# Altium footprint library PcbLib1.PcbLib: 26 footprints (part 1 of 2)
Each footprint in its own frame and in the unit in brackets; x right, y up, seen from the top. Pads: shape width x height; smd on the part's side, far side on the other; paste and mask are expansions set on the pad; w line width, h text height; cw(c..) or ccw(c..) is an arc to the next point about the centre after c.
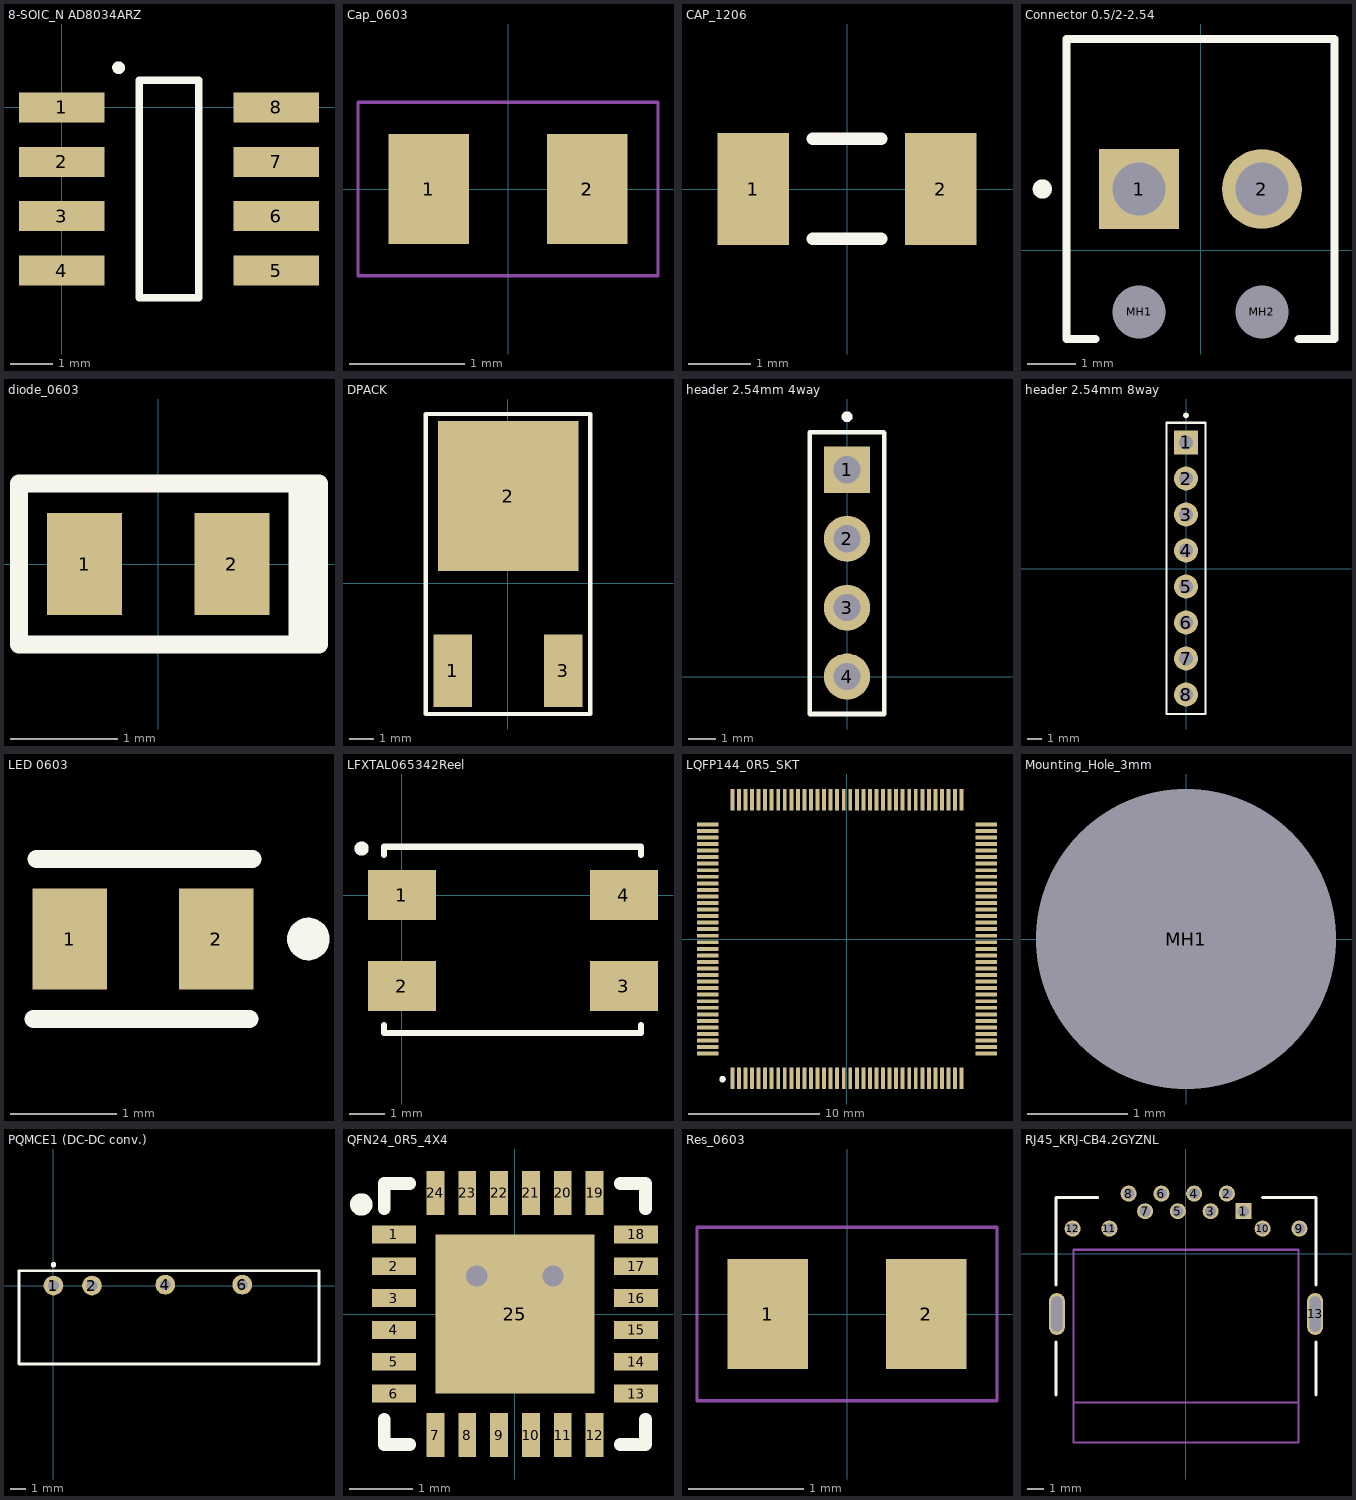
[diagram p0: the footprints below, top view; thin cyan lines are the x and y axes]

## 8-SOIC_N AD8034ARZ [mm]
pads (8):
  rect 2x0.7 smd: 1(0,0) 2(0,-1.27) 3(0,-2.54) 4(0,-3.81) 5(5,-3.81) 6(5,-2.54) 7(5,-1.27) 8(5,0)
Top Overlay:
  circle w0.2: c1.325,0.925 r0.05
  lines w0.17: 2.818,0.635 3.195,0.635 3.195,-4.445 1.805,-4.445 1.805,0.635 3.05,0.635
3D body: height 1.5, standoff 0, extent 0.55,-4.35 4.45,0.55

## Cap_0603 [mm]
pads (3):
  rect 0.7x0.95 smd: 1(-0.687,0) 2(0.688,0) 2(0.688,0)
Mechanical 13:
  lines w0.03: -1.3,-0.75 -1.3,0.75 1.3,0.75 1.3,-0.75 -1.3,-0.75
3D body: height 0.6, standoff 0, extent -0.762,-0.425 0.788,0.425

## CAP_1206 [mm] "Chip Capacitor, Body 3.2x1.6mm, Height 1mm, IPC Medium Density"
height 1
pads (2):
  rect 1.15x1.8 smd: 1(-1.5,0) 2(1.5,0)
Top Overlay:
  lines w0.2: -0.55,-0.8 0.55,-0.8 ; -0.55,0.8 0.55,0.8
3D body: height 1, standoff 0, extent 1.2,-0.9 1.7,0.9
3D body: height 1, standoff 0, extent -1.2,-0.9 1.2,0.9
3D body: height 1, standoff 0, extent -1.7,-0.9 -1.2,0.9

## Connector 0.5/2-2.54 [mm]
pads (4):
  rect 1.65x1.65 hole 1.1: 1(-1.27,1.27)
  round 1.65 hole 1.1: 2(1.27,1.27)
  round 0.55 hole 1.1 unplated: MH1(-1.27,-1.27) MH2(1.27,-1.27)
Top Overlay:
  circle w0.2: c-3.27,1.27 r0.1
  lines w0.17: -2.17,-1.83 -2.77,-1.83 -2.77,4.37 2.77,4.37 2.77,-1.83 2.03,-1.83
3D body "1725656.stp": height 9, standoff -3, extent -2.77,-1.83 2.77,4.37

## diode_0603 [mm]
pads (3):
  rect 0.7x0.95 smd: 1(-0.687,0) 2(0.688,0) 2(0.688,0)
Top Overlay:
  lines w0.17: 1.45,-0.75 1.45,0.75 ; 1.3,-0.75 1.5,-0.75 1.5,0.75 1.3,0.75 ; 1.3,-0.75 1.3,0.75 ; 1.3,-0.75 -1.3,-0.75 -1.3,0.75 1.3,0.75
3D body: height 0.6, standoff 0, extent -0.762,-0.425 0.788,0.425

## DPACK [mm]
pads (3):
  rect 1.6x3 smd: 1(-2.285,-3.61) 3(2.285,-3.61)
  rect 5.8x6.2 smd: 2(0.005,3.61)
Top Overlay:
  lines w0.17: -3.4,-5.4 -3.4,7 3.4,7 3.4,-5.4 -3.4,-5.4
3D body: height 2.2, standoff 0, extent -3.25,-2.35 3.25,3.75

## header 2.54mm 4way [mm]
pads (4):
  rect 1.7x1.7 hole 1: 1(0,7.62)
  round 1.7 hole 1: 2(0,5.08) 3(0,2.54) 4(0,0)
Top Overlay:
  circle w0.2: c0,9.575 r0.1
  lines w0.17: 1.35,9 -1.378,9 -1.378,-1.379 1.375,-1.379 1.375,8.975
3D body: height 11.6, standoff -3, extent -0.32,7.3 0.32,7.94
3D body: height 11.6, standoff -3, extent -0.32,4.74 0.32,5.38
3D body: height 11.6, standoff -3, extent -0.32,2.22 0.32,2.86
3D body: height 2.5, standoff 0, extent -1.27,-1.27 1.27,8.89
3D body: height 11.6, standoff -3, extent -0.32,-0.32 0.32,0.32

## header 2.54mm 8way [mm]
pads (8):
  rect 1.7x1.7 hole 1: 1(0,8.89)
  round 1.7 hole 1: 2(0,6.35) 3(0,3.81) 4(0,1.27) 5(0,-1.27) 6(0,-3.81) 7(0,-6.35) 8(0,-8.89)
Top Overlay:
  circle w0.2: c0,10.8 r0.1
  lines w0.17: 1.35,10.27 -1.378,10.27 -1.378,-10.26 1.375,-10.26 1.375,10.245
3D body: height 11.6, standoff -3, extent -0.32,-9.21 0.32,-8.57
3D body: height 11.6, standoff -3, extent -0.32,-6.67 0.32,-6.03
3D body: height 11.6, standoff -3, extent -0.32,-1.59 0.32,-0.95
3D body: height 11.6, standoff -3, extent -0.32,-4.13 0.32,-3.49
3D body: height 11.6, standoff -3, extent -0.32,8.57 0.32,9.21
3D body: height 11.6, standoff -3, extent -0.32,6.01 0.32,6.65
3D body: height 11.6, standoff -3, extent -0.32,3.49 0.32,4.13
3D body: height 2.5, standoff 0, extent -1.27,-10.15 1.27,10.17
3D body: height 11.6, standoff -3, extent -0.32,0.95 0.32,1.59

## LED 0603 [mm]
pads (3):
  rect 0.7x0.95 smd: 1(-152.187,-50.025) 2(-150.812,-50.025) 2(-150.812,-50.025)
Top Overlay:
  circle w0.2: c-149.95,-50.025 r0.1
  lines w0.17: -152.525,-50.775 -150.5,-50.775 ; -152.5,-49.275 -150.475,-49.275
3D body: height 0.45, standoff 0, extent -152.262,-50.45 -150.712,-49.6

## LFXTAL065342Reel [mm]
pads (4):
  rect 1.9x1.4 smd: 1(0,0) 2(0,-2.54) 3(6.2,-2.54) 4(6.2,0)
Top Overlay:
  circle w0.2: c-1.125,1.3 r0.1
  lines w0.17: -0.5,-3.625 -0.5,-3.85 6.675,-3.85 6.675,-3.625 ; -0.5,1.125 -0.5,1.35 6.675,1.35 6.675,1.125
3D body: height 1.2, standoff 0, extent -0.5,-3.85 6.7,1.35

## LQFP144_0R5_SKT [mm] "32-bit MCU ARM-based Cortex-M3 20 X 20mm, 0.5mm Pitch, 1.6mm Max thickness"
height 1.6
pads (144):
  rect 0.3x1.65 smd: 1(-8.75,-10.625) 2(-8.25,-10.625) 3(-7.75,-10.625) 4(-7.25,-10.625) 5(-6.75,-10.625) 6(-6.25,-10.625) 7(-5.75,-10.625) 8(-5.25,-10.625) 9(-4.75,-10.625) 10(-4.25,-10.625) 11(-3.75,-10.625) 12(-3.25,-10.625) 13(-2.75,-10.625) 14(-2.25,-10.625) 15(-1.75,-10.625) 16(-1.25,-10.625) 17(-0.75,-10.625) 18(-0.25,-10.625) 19(0.25,-10.625) 20(0.75,-10.625) 21(1.25,-10.625) 22(1.75,-10.625) 23(2.25,-10.625) 24(2.75,-10.625) 25(3.25,-10.625) 26(3.75,-10.625) 27(4.25,-10.625) 28(4.75,-10.625) 29(5.25,-10.625) 30(5.75,-10.625) 31(6.25,-10.625) 32(6.75,-10.625) 33(7.25,-10.625) 34(7.75,-10.625) 35(8.25,-10.625) 36(8.75,-10.625) 73(8.75,10.625) 74(8.25,10.625) 75(7.75,10.625) 76(7.25,10.625) 77(6.75,10.625) 78(6.25,10.625) 79(5.75,10.625) 80(5.25,10.625) 81(4.75,10.625) 82(4.25,10.625) 83(3.75,10.625) 84(3.25,10.625) 85(2.75,10.625) 86(2.25,10.625) 87(1.75,10.625) 88(1.25,10.625) 89(0.75,10.625) 90(0.25,10.625) 91(-0.25,10.625) 92(-0.75,10.625) 93(-1.25,10.625) 94(-1.75,10.625) 95(-2.25,10.625) 96(-2.75,10.625) 97(-3.25,10.625) 98(-3.75,10.625) 99(-4.25,10.625) 100(-4.75,10.625) 101(-5.25,10.625) 102(-5.75,10.625) 103(-6.25,10.625) 104(-6.75,10.625) 105(-7.25,10.625) 106(-7.75,10.625) 107(-8.25,10.625) 108(-8.75,10.625)
  rect 1.65x0.3 smd: 37(10.625,-8.75) 38(10.625,-8.25) 39(10.625,-7.75) 40(10.625,-7.25) 41(10.625,-6.75) 42(10.625,-6.25) 43(10.625,-5.75) 44(10.625,-5.25) 45(10.625,-4.75) 46(10.625,-4.25) 47(10.625,-3.75) 48(10.625,-3.25) 49(10.625,-2.75) 50(10.625,-2.25) 51(10.625,-1.75) 52(10.625,-1.25) 53(10.625,-0.75) 54(10.625,-0.25) 55(10.625,0.25) 56(10.625,0.75) 57(10.625,1.25) 58(10.625,1.75) 59(10.625,2.25) 60(10.625,2.75) 61(10.625,3.25) 62(10.625,3.75) 63(10.625,4.25) 64(10.625,4.75) 65(10.625,5.25) 66(10.625,5.75) 67(10.625,6.25) 68(10.625,6.75) 69(10.625,7.25) 70(10.625,7.75) 71(10.625,8.25) 72(10.625,8.75) 109(-10.625,8.75) 110(-10.625,8.25) 111(-10.625,7.75) 112(-10.625,7.25) 113(-10.625,6.75) 114(-10.625,6.25) 115(-10.625,5.75) 116(-10.625,5.25) 117(-10.625,4.75) 118(-10.625,4.25) 119(-10.625,3.75) 120(-10.625,3.25) 121(-10.625,2.75) 122(-10.625,2.25) 123(-10.625,1.75) 124(-10.625,1.25) 125(-10.625,0.75) 126(-10.625,0.25) 127(-10.625,-0.25) 128(-10.625,-0.75) 129(-10.625,-1.25) 130(-10.625,-1.75) 131(-10.625,-2.25) 132(-10.625,-2.75) 133(-10.625,-3.25) 134(-10.625,-3.75) 135(-10.625,-4.25) 136(-10.625,-4.75) 137(-10.625,-5.25) 138(-10.625,-5.75) 139(-10.625,-6.25) 140(-10.625,-6.75) 141(-10.625,-7.25) 142(-10.625,-7.75) 143(-10.625,-8.25) 144(-10.625,-8.75)
Top Overlay:
  circle w0.25: c-9.5,-10.7 r0.125
3D body: height 13, standoff 0, extent -6.35,5.715 -6.35,5.715
3D body: height 1.6, standoff 0, extent -9.652,-9.652 9.652,9.652

## Mounting_Hole_3mm [mm]
pads (1):
  round 2.9 hole 3 unplated: MH1(0,0)

## PQMCE1 (DC-DC conv.) [mm]
pads (4):
  round 1.3 hole 0.7: 1(0,0) 2(2.54,0) 4(7.38,0.06) 6(12.46,0.06)
Top Overlay:
  circle w0.25: c0,1.375 r0.051
  lines w0.17: -2.275,-5.175 17.525,-5.175 17.525,0.975 -2.275,0.975 -2.275,-5.175
3D body: height 10.16, standoff 0, extent -2.2,-5.1 17.45,0.9

## QFN24_0R5_4X4 [mm] "SQFN 24 Pins, Pitch 0.5mm, 4mmx4mm"
height 1
pads (25):
  rect 0.69x0.28 smd: 1(-1.9,1.25) 2(-1.9,0.75) 3(-1.9,0.25) 4(-1.9,-0.25) 5(-1.9,-0.75) 6(-1.9,-1.25) 13(1.9,-1.25) 14(1.9,-0.75) 15(1.9,-0.25) 16(1.9,0.25) 17(1.9,0.75) 18(1.9,1.25)
  rect 0.28x0.69 smd: 7(-1.25,-1.9) 8(-0.75,-1.9) 9(-0.25,-1.9) 10(0.25,-1.9) 11(0.75,-1.9) 12(1.25,-1.9) 19(1.25,1.9) 20(0.75,1.9) 21(0.25,1.9) 22(-0.25,1.9) 23(-0.75,1.9) 24(-1.25,1.9)
  rect 2.5x2.5 smd: 25(0,0)
via 0.6,0.6 diameter 0.66 hole 0.33
via -0.6,0.6 diameter 0.66 hole 0.33
Top Overlay:
  circle w0.25: c-2.413,1.719 r0.051
  lines w0.2: -2.05,-1.651 -2.05,-2.05 -1.651,-2.05 ; -2.05,1.651 -2.05,2.05 -1.651,2.05 ; 1.651,-2.05 2.05,-2.05 2.05,-1.651 ; 1.651,2.05 2.05,2.05 2.05,1.651
3D body: height 1, standoff 0.02, extent -2.05,-2.05 2.05,2.05

## Res_0603 [mm]
pads (3):
  rect 0.7x0.95 smd: 1(-0.687,0) 2(0.688,0) 2(0.688,0)
Mechanical 13:
  lines w0.03: -1.3,-0.75 1.3,-0.75 1.3,0.75 -1.3,0.75 -1.3,-0.75
3D body: height 0.45, standoff 0, extent -0.762,-0.425 0.788,0.425

## RJ45_KRJ-CB4.2GYZNL [mm] "RJ45  connector, right angle"
height 1
pads (14):
  rect 1x1 hole 0.7: 1(3.57,2.65)
  round 1 hole 0.7: 2(2.55,3.75) 3(1.53,2.65) 4(0.51,3.75) 5(-0.51,2.65) 6(-1.53,3.75) 7(-2.55,2.65) 8(-3.57,3.75) 9(7.06,1.57) 10(4.77,1.57) 11(-4.77,1.57) 12(-7.06,1.57)
  oval 1x2.6 hole 0.7 slot 2.2 at 90 deg: 13(8.04,-3.75) 13(unconnected)(-8.04,-3.75)
Top Overlay:
  lines w0.17: -8.1,-8.8 -8.1,-5.5 ; -8.1,-1.94 -8.1,3.5 -5.5,3.5 ; 4.77,3.5 8.1,3.5 8.1,-1.94 ; 8.1,-8.8 8.1,-5.5
Mechanical 1:
  lines w0.127: -7,-9.25 7,-9.25 ; -7,-11.75 -7,0.25 7,0.25 7,-11.75 -7,-11.75
3D body: height 6.8, standoff 0, extent -8.103,-9.25 8.077,3.465
3D body: height 6.8, standoff -4.2, extent -8.103,-11.75 8.077,-9.25
3D body: height 4.2, standoff -4.2, extent -7,-9.25 7,0.25